# Altium schematic symbol library STxx3N150 Family.SchLib: 1 symbol
Pins are listed as number, name and electrical type; pins without a type are passive.

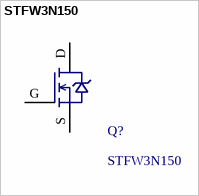
[diagram p0: symbol STFW3N150]

## STFW3N150
designator Q?
N-Channel 1500V 2.5A (Tc) 63W (Tc) Through Hole ISOWATT-218FX; Manufacturer 1: STMicroelectronics; ComponentLink1Description: Datasheet; ComponentLink1URL: https://www.st.com/content/ccc/resource/technical/document/datasheet/ee/c8/b0/29/66/7c/4e/fe/CD00149569.pdf/files/CD00149569.pdf/jcr:content/translations/en.CD00149569.pdf; Digikey PN: 497-10005-5-ND; Manufacturer 1 PN: STFW3N150; Voltage: 1500V; Current: 2.5A; Power: 63W
footprint STFW3N150 (N-Channel 1500V 2.5A (Tc) 63W (Tc) Through Hole ISOWATT-218FX)
pins: D (power), G (power), S (power)